# Altium schematic symbol library WM6357CT.SchLib: 1 symbol
Pins are listed as number, name and electrical type; pins without a type are passive.

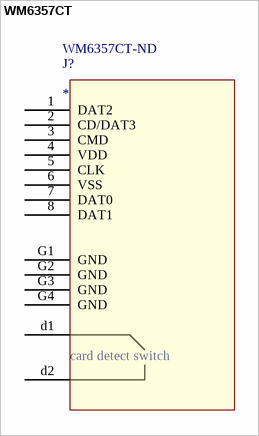
[diagram p0: symbol WM6357CT]

## WM6357CT
designator J?  Supplier Part Number 1: WM6357CT-ND
Manufacturer: Molex; Manufacturer Part Number: 104031-0811; Number of Contacts: 8; Current Rating: 500mA; Voltage Rating (AC): 10V; Mating Cycles: 10000; Connector Type: Connector; Gender: Female; Pitch: 1.1mm; Supplier 1: Digikey; Stock 1: 14894; Pricing 1: 1=1.92, 10=1.742, 25=1.6352, 50=1.564, 100=1.493, 250=1.3508, 500=1.2441, 1000=1.0664 (USD); Mount: Surface Mount; Case/Package: SMD/SMT; Contact Material: Bronze; Contact Plating: Nickel,Gold; Housing Material: Polymer; Min Operating Temperature: -25°C; Max Operating Temperature: 85°C; Number of Rows: 1; Orientation: Right Angle; Packaging: Tape and Reel; Package Quantity: 1; Termination: Solder; Number of Circuits: 8; Length: 11.14mm; Height: 1.42mm; Width: 11.4mm; Depth: 11.4mm; Radiation Hardening: No; REACH SVHC: Unknown; Halogen Free: Low Halogen; ComponentLink1URL: https://datasheet.ciiva.com/4581/1040310811-memory-card-socket-153593-4581012.pdf; ComponentLink1Description: https://datasheet.ciiva.com/4581/1040310811-memory-card-socket-153593-4581012.pdf; ComponentLink2URL: https://datasheet.ciiva.com/15174/getdatasheetpartid-716154-15174887.pdf; ComponentLink2Description: https://datasheet.ciiva.com/15174/getdatasheetpartid-716154-15174887.pdf; ComponentLink3URL: https://datasheet.ciiva.com/683/1040310811-sd-683579.pdf; ComponentLink3Description: https://datasheet.ciiva.com/683/1040310811-sd-683579.pdf; ComponentLink4URL: https://datasheet.ciiva.com/683/1040310811-sd-683580.pdf; ComponentLink4Description: https://datasheet.ciiva.com/683/1040310811-sd-683580.pdf; ComponentLink5URL: https://datasheet.ciiva.com/16655/1040310811-memory-card-socket-16655292.pdf; ComponentLink5Description: https://datasheet.ciiva.com/16655/1040310811-memory-card-socket-16655292.pdf; ComponentLink6URL: https://datasheet.ciiva.com/683/1040310811-sd-683581.pdf; ComponentLink6Description: https://datasheet.ciiva.com/683/1040310811-sd-683581.pdf; ComponentLink7URL: https://datasheet.ciiva.com/3121/1040310811-memory-card-socket-3121437.pdf; ComponentLink7Description: https://datasheet.ciiva.com/3121/1040310811-memory-card-socket-3121437.pdf; ComponentLink8URL: https://datasheet.ciiva.com/16496/1040310811-memory-card-socket-16496702.pdf; ComponentLink8Description: https://datasheet.ciiva.com/16496/1040310811-memory-card-socket-16496702.pdf
footprint SD-104031-001
pins: 1 DAT2, 2 CD/DAT3, 3 CMD, 4 VDD, 5 CLK, 6 VSS, 7 DAT0, 8 DAT1, d1, d2, G1 GND, G2 GND, G3 GND, G4 GND
text: card detect switch